# Altium footprint library SamacSys.PcbLib: 16 footprints
Each footprint in its own frame and in the unit in brackets; x right, y up, seen from the top. Pads: shape width x height; smd on the part's side, far side on the other; paste and mask are expansions set on the pad; w line width, h text height; cw(c..) or ccw(c..) is an arc to the next point about the centre after c.
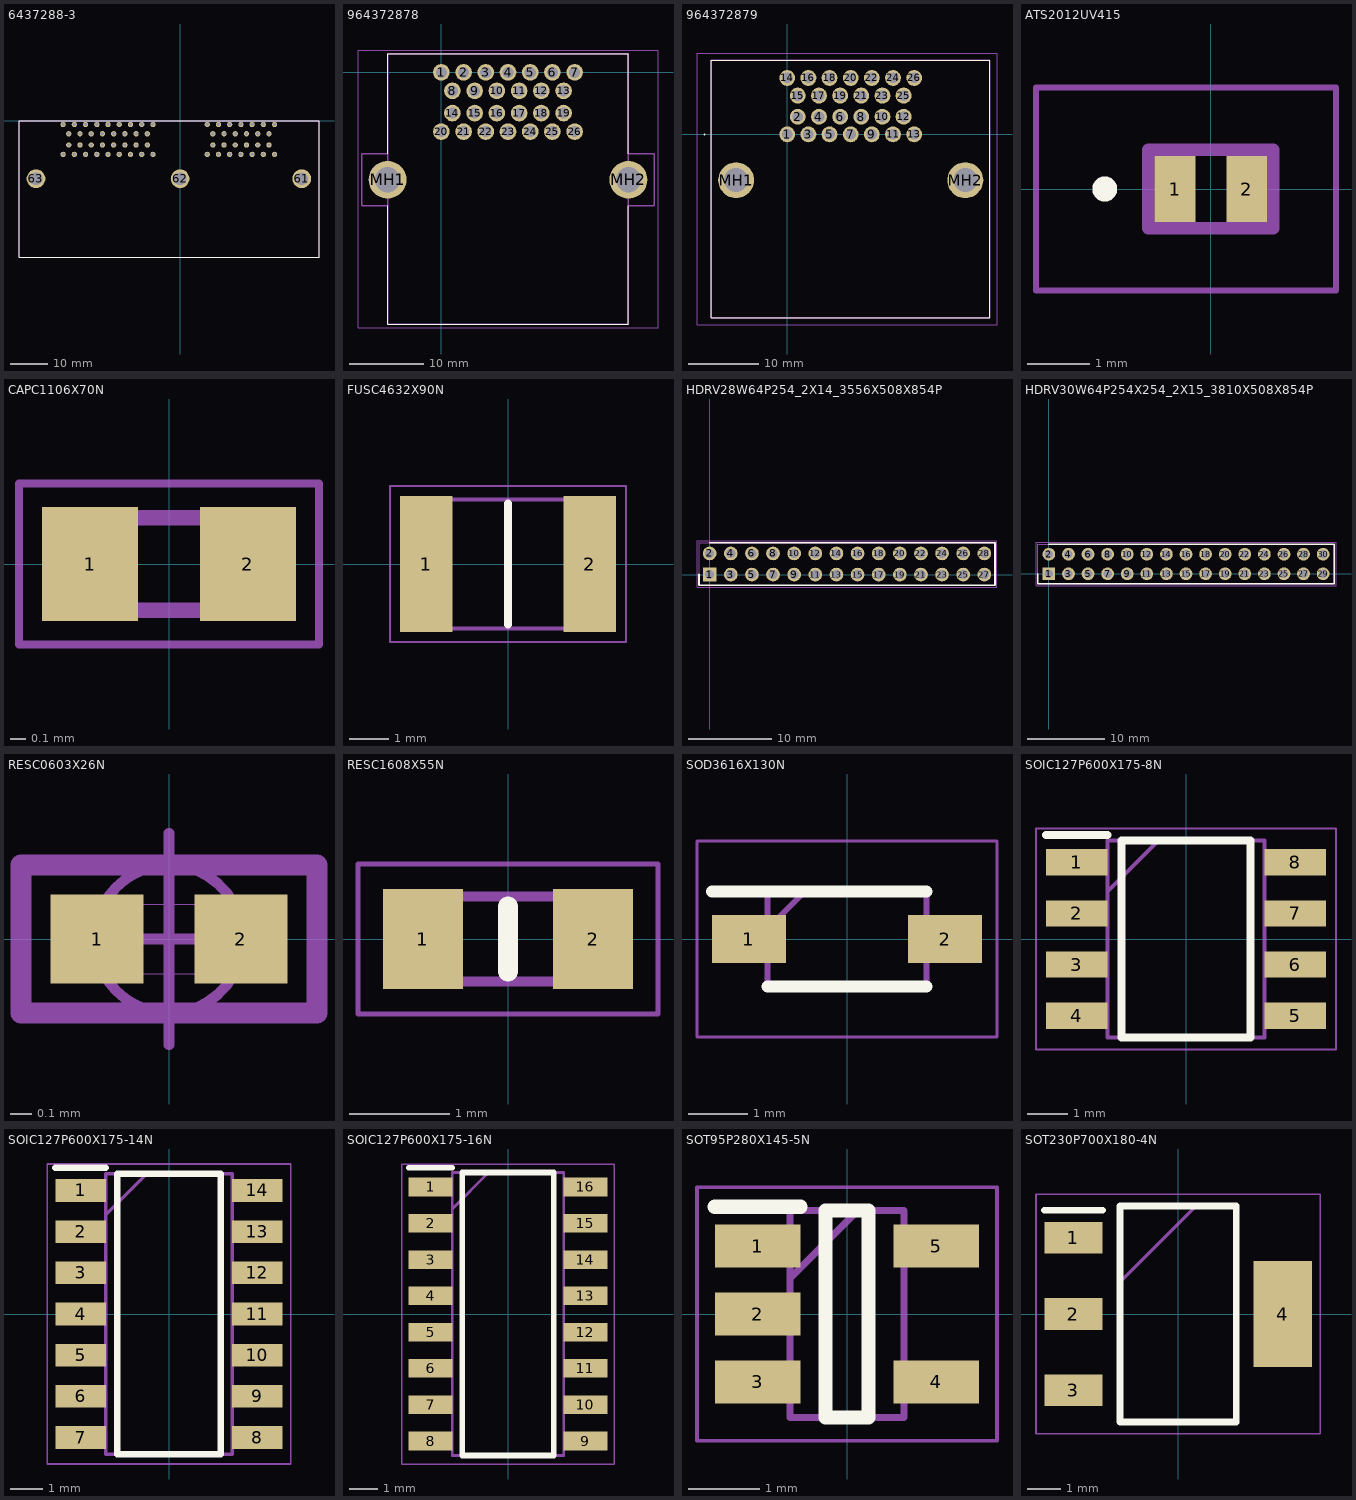
[diagram p0: the footprints below, top view; thin cyan lines are the x and y axes]

## 6437288-3 [mm]
pads (63):
  round 1.41 hole 0.91: 1(-31.25,-1) 2(-28.25,-1) 3(-25.25,-1) 4(-22.25,-1) 5(-19.25,-1) 6(-16.25,-1) 7(-13.25,-1) 8(-10.25,-1) 9(-7.25,-1) 10(-29.75,-3.5) 11(-26.75,-3.5) 12(-23.75,-3.5) 13(-20.75,-3.5) 14(-17.75,-3.5) 15(-14.75,-3.5) 16(-11.75,-3.5) 17(-8.75,-3.5) 18(-29.75,-6.5) 19(-26.75,-6.5) 20(-23.75,-6.5) 21(-20.75,-6.5) 22(-17.75,-6.5) 23(-14.75,-6.5) 24(-11.75,-6.5) 25(-8.75,-6.5) 26(-31.25,-9) 27(-28.25,-9) 28(-25.25,-9) 29(-22.25,-9) 30(-19.25,-9) 31(-16.25,-9) 32(-13.25,-9) 33(-10.25,-9) 34(-7.25,-9) 35(7.25,-1) 36(10.25,-1) 37(13.25,-1) 38(16.25,-1) 39(19.25,-1) 40(22.25,-1) 41(25.25,-1) 42(8.75,-3.5) 43(11.75,-3.5) 44(14.75,-3.5) 45(17.75,-3.5) 46(20.75,-3.5) 47(23.75,-3.5) 48(8.75,-6.5) 49(11.75,-6.5) 50(14.75,-6.5) 51(17.75,-6.5) 52(20.75,-6.5) 53(23.75,-6.5) 54(7.25,-9) 55(10.25,-9) 56(13.25,-9) 57(16.25,-9) 58(19.25,-9) 59(22.25,-9) 60(25.25,-9)
  round 5 hole 3.4: 61(32.5,-15.5) 62(0,-15.5) 63(-38.5,-15.5)
Top Overlay:
  lines w0.2: -43.042,-36.5 -43.042,0 37.119,0 37.119,-36.5 -43.042,-36.5
Mechanical 13:
  lines w0.2: -43.042,-36.5 37.119,-36.5 37.119,0 -43.042,0 -43.042,-36.5
3D body "6437288-3.stp": height 0, standoff -36.5, extent -42,-18.2 36,13.95

## 964372878 [mm]
pads (28):
  round 2.25 hole 1.5: 1(0,0) 2(3,0) 3(6,0) 4(9,0) 5(12,0) 6(15,0) 7(18,0) 8(1.5,-2.5) 9(4.5,-2.5) 10(7.5,-2.5) 11(10.5,-2.5) 12(13.5,-2.5) 13(16.5,-2.5) 14(1.5,-5.5) 15(4.5,-5.5) 16(7.5,-5.5) 17(10.5,-5.5) 18(13.5,-5.5) 19(16.5,-5.5) 20(0,-8) 21(3,-8) 22(6,-8) 23(9,-8) 24(12,-8) 25(15,-8) 26(18,-8)
  round 5.1 hole 3.4: MH1(-7.25,-14.5) MH2(25.25,-14.5)
Top Overlay:
  lines w0.1: -7.25,-18 -7.25,-34 25.25,-34 25.25,-18 ; -7.25,-11 -7.25,2.5 25.25,2.5 25.25,-11
Mechanical 13:
  lines w0.2: -10.75,-18 -7.25,-18 -7.25,-11 -10.75,-11 -10.75,-18 ; -7.25,-34 -7.25,2.5 25.25,2.5 25.25,-34 -7.25,-34 ; 25.25,-18 25.25,-11 28.75,-11 28.75,-18 25.25,-18
Mechanical 15:
  lines w0.1: -11.25,-34.5 -11.25,3 29.25,3 29.25,-34.5 -11.25,-34.5
3D body "9-6437287-8.stp": height 0, standoff -36.5, extent -19.75,-18.2 19.75,13.95

## 964372879 [mm]
pads (28):
  round 2.25 hole 1.5: 1(0,0) 2(1.5,2.5) 3(3,0) 4(4.5,2.5) 5(6,0) 6(7.5,2.5) 7(9,0) 8(10.5,2.5) 9(12,0) 10(13.5,2.5) 11(15,0) 12(16.5,2.5) 13(18,0) 14(0,8) 15(1.5,5.5) 16(3,8) 17(4.5,5.5) 18(6,8) 19(7.5,5.5) 20(9,8) 21(10.5,5.5) 22(12,8) 23(13.5,5.5) 24(15,8) 25(16.5,5.5) 26(18,8)
  round 5.1 hole 3.4: MH1(-7.25,-6.5) MH2(25.25,-6.5)
Top Overlay:
  lines w0.1: -10.75,-26 -10.75,10.5 28.75,10.5 28.75,-26 -10.75,-26
  lines w0.2: -11.8,0 ccw(c-11.75,0) -11.7,0 ; -11.8,0 cw(c-11.75,0) -11.7,0 ; -11.8,0 ccw(c-11.75,0) -11.7,0
Mechanical 13:
  lines w0.2: -10.75,-26 -10.75,10.5 28.75,10.5 28.75,-26 -10.75,-26
Mechanical 15:
  lines w0.1: -12.8,-27 -12.8,11.5 29.75,11.5 29.75,-27 -12.8,-27
3D body "9-6437287-9.stp": height 28.45, standoff -5, extent -10.75,-26 28.75,10.5

## ATS2012UV415 [mm]
pads (2):
  rect 0.65x1.06 smd: 1(-0.575,0) 2(0.575,0)
Top Overlay:
  lines w0.2: -1.8,0 cw(c-1.7,0) -1.6,0 cw(c-1.7,0) -1.8,0
Mechanical 13:
  lines w0.2: -1,-0.625 -1,0.625 1,0.625 1,-0.625 -1,-0.625
Mechanical 15:
  lines w0.1: -2.8,-1.625 -2.8,1.625 2,1.625 2,-1.625 -2.8,-1.625
3D body "ATS2012UV415.stp": height 1.1, standoff 0, extent -1,-0.625 1,0.625

## CAPC1106X70N [mm]
pads (2):
  rect 0.62x0.74 smd: 1(-0.51,0) 2(0.51,0)
Mechanical 13:
  lines w0.1: -0.55,-0.3 -0.55,0.3 0.55,0.3 0.55,-0.3 -0.55,-0.3
Mechanical 15:
  lines w0.05: -0.97,-0.52 -0.97,0.52 0.97,0.52 0.97,-0.52 -0.97,-0.52
3D body "UMK105CBJ105MV-F.stp": height 0.7, standoff 0, extent -0.55,-0.3 0.55,0.3

## FUSC4632X90N [mm]
pads (2):
  rect 1.32x3.43 smd: 1(-2.06,0) 2(2.06,0)
Top Overlay:
  lines w0.2: 0,-1.52 0,1.52
Mechanical 13:
  lines w0.1: -2.275,-1.62 -2.275,1.62 2.275,1.62 2.275,-1.62 -2.275,-1.62
Mechanical 15:
  lines w0.05: -2.97,-1.965 -2.97,1.965 2.97,1.965 2.97,-1.965 -2.97,-1.965
3D body "0ZCG0020AF2C.stp": height 0.9, standoff 0, extent -2.275,-1.62 2.275,1.62

## HDRV28W64P254_2X14_3556X508X854P [mm]
pads (28):
  rect 1.65x1.65 hole 1.1: 1(0,0)
  round 1.65 hole 1.1: 2(0,2.54) 3(2.54,0) 4(2.54,2.54) 5(5.08,0) 6(5.08,2.54) 7(7.62,0) 8(7.62,2.54) 9(10.16,0) 10(10.16,2.54) 11(12.7,0) 12(12.7,2.54) 13(15.24,0) 14(15.24,2.54) 15(17.78,0) 16(17.78,2.54) 17(20.32,0) 18(20.32,2.54) 19(22.86,0) 20(22.86,2.54) 21(25.4,0) 22(25.4,2.54) 23(27.94,0) 24(27.94,2.54) 25(30.48,0) 26(30.48,2.54) 27(33.02,0) 28(33.02,2.54)
Top Overlay:
  lines w0.2: -1.27,0 -1.27,-1.27 34.29,-1.27 34.29,3.81 0,3.81
Mechanical 13:
  lines w0.1: -1.27,-1.27 34.29,-1.27 34.29,3.81 -1.27,3.81 -1.27,-1.27
Mechanical 15:
  lines w0.05: -1.52,-1.52 34.54,-1.52 34.54,4.06 -1.52,4.06 -1.52,-1.52
3D body "61302821121.stp": height 8.54, standoff -3, extent -1.27,-1.27 34.29,3.81

## HDRV30W64P254X254_2X15_3810X508X854P [mm]
pads (30):
  rect 1.65x1.65 hole 1.1: 1(0,0)
  round 1.65 hole 1.1: 2(0,2.54) 3(2.54,0) 4(2.54,2.54) 5(5.08,0) 6(5.08,2.54) 7(7.62,0) 8(7.62,2.54) 9(10.16,0) 10(10.16,2.54) 11(12.7,0) 12(12.7,2.54) 13(15.24,0) 14(15.24,2.54) 15(17.78,0) 16(17.78,2.54) 17(20.32,0) 18(20.32,2.54) 19(22.86,0) 20(22.86,2.54) 21(25.4,0) 22(25.4,2.54) 23(27.94,0) 24(27.94,2.54) 25(30.48,0) 26(30.48,2.54) 27(33.02,0) 28(33.02,2.54) 29(35.56,0) 30(35.56,2.54)
Top Overlay:
  lines w0.2: -1.42,0 -1.42,-1.27 36.98,-1.27 36.98,3.81 0,3.81
Mechanical 13:
  lines w0.1: -1.42,-1.27 36.98,-1.27 36.98,3.81 -1.42,3.81 -1.42,-1.27
Mechanical 15:
  lines w0.05: -1.67,-1.52 37.23,-1.52 37.23,4.06 -1.67,4.06 -1.67,-1.52
3D body "61303021121.stp": height 8.54, standoff -3, extent -1.27,-1.27 36.83,3.81

## RESC0603X26N [mm]
pads (2):
  rect 0.44x0.42 smd: 1(-0.34,0) 2(0.34,0)
Mechanical 13:
  lines w0.1: -0.7,-0.35 0.7,-0.35 0.7,0.35 -0.7,0.35 -0.7,-0.35
Mechanical 15:
  circle w0.05: c0,0 r0.35
  lines w0.001: -0.315,-0.165 0.315,-0.165 0.315,0.165 -0.315,0.165 -0.315,-0.165
  lines w0.05: -0.5,0 0.5,0 ; 0,-0.5 0,0.5 ; -0.71,-0.36 0.71,-0.36 0.71,0.36 -0.71,0.36 -0.71,-0.36
3D body "RC0201FR-0768KL.stp": height 0.26, standoff 0, extent -0.3,-0.15 0.3,0.15

## RESC1608X55N [mm]
pads (2):
  rect 0.8x1 smd: 1(-0.85,0) 2(0.85,0)
Top Overlay:
  lines w0.2: 0,-0.325 0,0.325
Mechanical 13:
  lines w0.1: -0.8,-0.425 -0.8,0.425 0.8,0.425 0.8,-0.425 -0.8,-0.425
Mechanical 15:
  lines w0.05: -1.5,-0.75 -1.5,0.75 1.5,0.75 1.5,-0.75 -1.5,-0.75
3D body "ERJ-PB3B1002V.stp": height 0.55, standoff 0, extent -0.8,-0.425 0.8,0.425

## SOD3616X130N [mm]
pads (2):
  rect 1.25x0.8 smd: 1(-1.65,0) 2(1.65,0)
Top Overlay:
  lines w0.2: -2.275,0.8 1.338,0.8 ; -1.338,-0.8 1.338,-0.8
Mechanical 13:
  lines w0.1: -1.338,0.175 -0.712,0.8 ; -1.338,-0.8 -1.338,0.8 1.338,0.8 1.338,-0.8 -1.338,-0.8
Mechanical 15:
  lines w0.05: -2.525,-1.65 -2.525,1.65 2.525,1.65 2.525,-1.65 -2.525,-1.65
3D body "BZT52-C4V7X.stp": height 1.3, standoff 0, extent -1.8,-0.8 1.8,0.8

## SOIC127P600X175-8N [mm]
pads (8):
  rect 1.525x0.65 smd: 1(-2.712,1.905) 2(-2.712,0.635) 3(-2.712,-0.635) 4(-2.712,-1.905) 5(2.712,-1.905) 6(2.712,-0.635) 7(2.712,0.635) 8(2.712,1.905)
Top Overlay:
  lines w0.2: -3.475,2.58 -1.95,2.58 ; -1.6,-2.45 1.6,-2.45 1.6,2.45 -1.6,2.45 -1.6,-2.45
Mechanical 13:
  lines w0.1: -1.95,1.18 -0.68,2.45 ; -1.95,-2.45 1.95,-2.45 1.95,2.45 -1.95,2.45 -1.95,-2.45
Mechanical 15:
  lines w0.05: -3.725,-2.75 3.725,-2.75 3.725,2.75 -3.725,2.75 -3.725,-2.75
3D body "NE555DR.stp": height 1.75, standoff 0, extent -3,-2.45 3,2.45

## SOIC127P600X175-14N [mm]
pads (14):
  rect 1.55x0.7 smd: 1(-2.725,3.81) 2(-2.725,2.54) 3(-2.725,1.27) 4(-2.725,0) 5(-2.725,-1.27) 6(-2.725,-2.54) 7(-2.725,-3.81) 8(2.725,-3.81) 9(2.725,-2.54) 10(2.725,-1.27) 11(2.725,0) 12(2.725,1.27) 13(2.725,2.54) 14(2.725,3.81)
Top Overlay:
  lines w0.2: -3.5,4.51 -1.95,4.51 ; -1.6,-4.325 -1.6,4.325 1.6,4.325 1.6,-4.325 -1.6,-4.325
Mechanical 13:
  lines w0.1: -1.95,3.055 -0.68,4.325 ; -1.95,-4.325 -1.95,4.325 1.95,4.325 1.95,-4.325 -1.95,-4.325
Mechanical 15:
  lines w0.05: -3.75,-4.625 -3.75,4.625 3.75,4.625 3.75,-4.625 -3.75,-4.625
3D body "TJA1048T,118.stp": height 1.75, standoff 0, extent -3,-4.325 3,4.325

## SOIC127P600X175-16N [mm]
pads (16):
  rect 1.525x0.65 smd: 1(-2.712,4.445) 2(-2.712,3.175) 3(-2.712,1.905) 4(-2.712,0.635) 5(-2.712,-0.635) 6(-2.712,-1.905) 7(-2.712,-3.175) 8(-2.712,-4.445) 9(2.712,-4.445) 10(2.712,-3.175) 11(2.712,-1.905) 12(2.712,-0.635) 13(2.712,0.635) 14(2.712,1.905) 15(2.712,3.175) 16(2.712,4.445)
Top Overlay:
  lines w0.2: -3.475,5.12 -1.95,5.12 ; -1.6,-4.95 -1.6,4.95 1.6,4.95 1.6,-4.95 -1.6,-4.95
Mechanical 13:
  lines w0.1: -1.95,3.68 -0.68,4.95 ; -1.95,-4.95 -1.95,4.95 1.95,4.95 1.95,-4.95 -1.95,-4.95
Mechanical 15:
  lines w0.05: -3.725,-5.25 -3.725,5.25 3.725,5.25 3.725,-5.25 -3.725,-5.25
3D body "SN75468D.stp": height 1.75, standoff 0, extent -3,-4.95 3,4.95

## SOT95P280X145-5N [mm]
pads (5):
  rect 1.2x0.6 smd: 1(-1.25,0.95) 2(-1.25,0) 3(-1.25,-0.95) 4(1.25,-0.95) 5(1.25,0.95)
Top Overlay:
  lines w0.2: -1.85,1.5 -0.65,1.5 ; -0.3,-1.45 -0.3,1.45 0.3,1.45 0.3,-1.45 -0.3,-1.45
Mechanical 13:
  lines w0.1: -0.8,0.5 0.15,1.45 ; -0.8,-1.45 -0.8,1.45 0.8,1.45 0.8,-1.45 -0.8,-1.45
Mechanical 15:
  lines w0.05: -2.1,-1.775 -2.1,1.775 2.1,1.775 2.1,-1.775 -2.1,-1.775
3D body "OPA388IDBVT.stp": height 1.45, standoff 0, extent -1.4,-1.45 1.4,1.45

## SOT230P700X180-4N [mm]
pads (4):
  rect 1.75x0.95 smd: 1(-3.15,2.3) 2(-3.15,0) 3(-3.15,-2.3)
  rect 1.75x3.2 smd: 4(3.15,0)
Top Overlay:
  lines w0.2: -4.025,3.125 -2.275,3.125 ; -1.75,-3.25 -1.75,3.25 1.75,3.25 1.75,-3.25 -1.75,-3.25
Mechanical 13:
  lines w0.1: -1.75,0.95 0.55,3.25 ; -1.75,-3.25 -1.75,3.25 1.75,3.25 1.75,-3.25 -1.75,-3.25
Mechanical 15:
  lines w0.05: -4.275,-3.6 -4.275,3.6 4.275,3.6 4.275,-3.6 -4.275,-3.6
3D body "UA78M33CDCYR.stp": height 1.8, standoff 0, extent -3.5,-3.25 3.5,3.25